# Altium schematic symbol library IRFZ24N.SchLib: 1 symbol
Pins are listed as number, name and electrical type; pins without a type are passive.

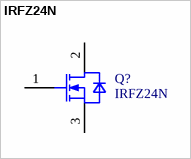
[diagram p0: symbol IRFZ24N]

## IRFZ24N
designator Q?
OptiMOS 3 Power-Transistor, VDS 100V; Manufacturer: Infineon Technologies; Manufacturer Order Number: IRFZ24N; PackageReference: PG-TO220-3-904
pins: 1 GATE, 2 DRAIN, 3 SOURCE